# Altium schematic symbol library Button.SchLib: 6 symbols
Pins are listed as number, name and electrical type; pins without a type are passive.

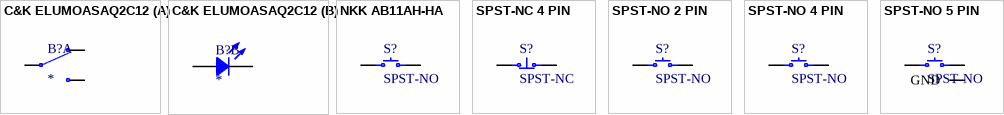
[diagram p0: symbols C&K ELUMOASAQ2C12 to SPST-NO 5 PIN]

## C&K ELUMOASAQ2C12
designator B?
part A pins: 2 NO, 3 C, 4 NC
part B pins: 1 C, 5 A

## NKK AB11AH-HA
designator S?, comment SPST-NO
pins: 1, 3

## SPST-NC 4 PIN
designator S?, comment SPST-NC
pins: 1, 2, 3, 4

## SPST-NO 2 PIN
designator S?, comment SPST-NO
pins: 1, 2

## SPST-NO 4 PIN
designator S?, comment SPST-NO
pins: 1, 2, 3, 4

## SPST-NO 5 PIN
designator S?, comment SPST-NO
pins: 1, 2, 3, 4, 5 GND